# EAGLE library part USB_CONN (library rct_ui_board)
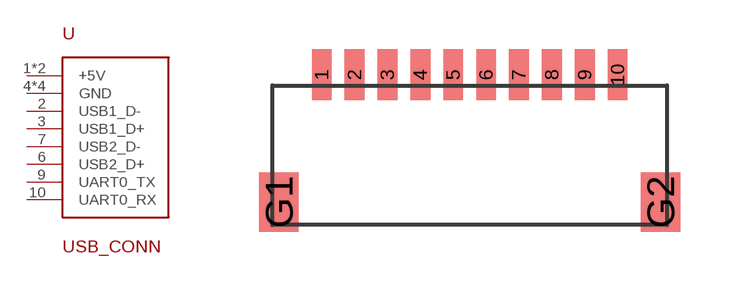
[diagram p0: symbol with the pads of SM10B-SRSS-TB; footprint SM10B-SRSS-TB]

Designator prefix -

## USB_CONN  [SM10B-SRSS-TB]
1  +5V  sup
2  USB1_D-
3  USB1_D+
4  GND  sup
5  +5V  sup
6  USB2_D+
7  USB2_D-
8  GND  sup
9  UART0_TX  out
10  UART0_RX  in
G1  GND  sup
G2  GND  sup

## Footprint SM10B-SRSS-TB (pad centres in mm)
smd 0.6 x 1.55: 1 -4.5,4.775; 2 -3.5,4.775; 3 -2.5,4.775; 4 -1.5,4.775; 5 -0.5,4.775; 6 0.5,4.775; 7 1.5,4.775; 8 2.5,4.775; 9 3.5,4.775; 10 4.5,4.775
smd 1.2 x 1.8: G1 -5.8,0.9; G2 5.8,0.9